# EAGLE library part MTA08 (library con-amp)
AMP connector
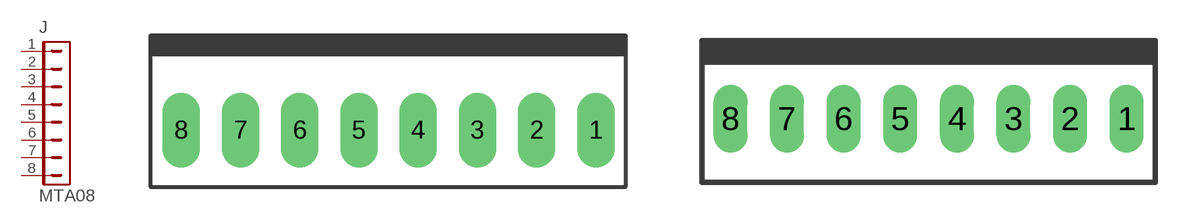
[diagram p113: symbol with the pads of MTA08-156; footprints MTA08-156, MTA08-100]

Designator prefix J

## MTA08-156  [MTA08-156]
1  1  pas
2  2  pas
3  3  pas
4  4  pas
5  5  pas
6  6  pas
7  7  pas
8  8  pas

## MTA08-100  [MTA08-100]
Pads as for MTA08-156

## Footprint MTA08-156 (pad centres in mm)
MTA Connector - 0.156" pitch
drill 1.676 long: 1 13.868,0; 2 9.906,0; 3 5.944,0; 4 1.981,0; 5 -1.981,0; 6 -5.944,0; 7 -9.906,0; 8 -13.868,0

## Footprint MTA08-100 (pad centres in mm)
MTA Connector - 0.1" pitch
drill 1.016 long: 1 8.89,0; 2 6.35,0; 3 3.81,0; 4 1.27,0; 5 -1.27,0; 6 -3.81,0; 7 -6.35,0; 8 -8.89,0